# Altium footprint library pinheader_P2R1_SMD.PcbLib: 1 footprints
Each footprint in its own frame and in the unit in brackets; x right, y up, seen from the top. Pads: shape width x height; smd on the part's side, far side on the other; paste and mask are expansions set on the pad; w line width, h text height; cw(c..) or ccw(c..) is an arc to the next point about the centre after c.
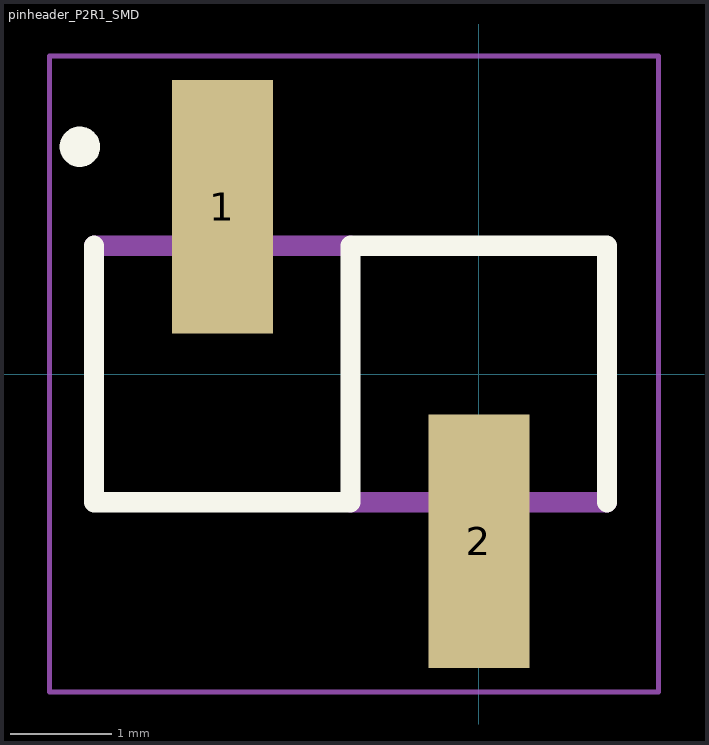
[diagram p0: the footprint, top view; thin cyan lines are the x and y axes]

## pinheader_P2R1_SMD [mm]
pads (2):
  rect 1x2.51 smd: 1(-2.54,1.655) 2(0,-1.655)
Top Overlay:
  circle w0.2: c-3.95,2.25 r0.1
  lines w0.2: -3.81,1.27 -3.81,-1.27 -1.27,-1.27 -1.27,1.27 1.27,1.27 1.27,-1.27
Top 3D Body:
  lines w0.127: -3.81,1.27 -3.81,-1.27 -1.27,-1.27 -1.27,1.27 1.27,1.27 1.27,-1.27
  lines w0.2: -3.81,1.27 -1.27,1.27 ; -1.27,-1.27 1.27,-1.27
Top Courtyard:
  lines w0.05: -4.25,-3.15 1.778,-3.15 1.778,3.15 -4.25,3.15 -4.25,-3.15
3D body "M20-8770242R.stp": height 9.9, standoff -0.03, extent -3.81,-2.54 1.27,2.54